# EAGLE library part MSH1602A_SMD_MIRRORED (library Display - LCD MSH1602A)
Name des Bauteiles:Display für DispensiMed3000 Daten:für Info´s bitte an Gz wenden. Artikelnummer: k.A Datenblatt:Gz
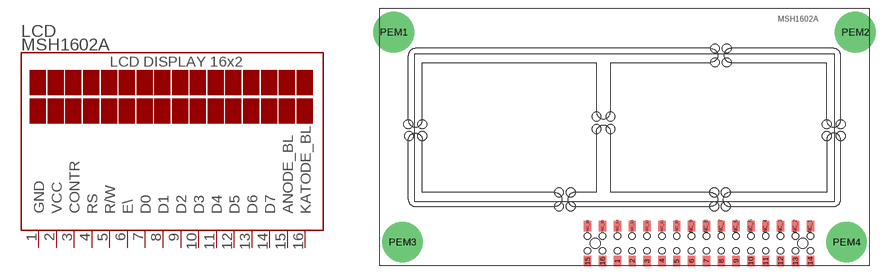
[diagram p0: symbol with the pads of MSH1602A_MIRRORED_SMD_CONTACT; footprint MSH1602A_MIRRORED_SMD_CONTACT]

Designator prefix LCD

## MSH1602A_SMD_MIRROREDTHT  [MSH1602A_MIRRORED_SMD_CONTACT]
1  GND  pwr
2  VCC  pwr
3  CONTR  pwr
4  RS  in
5  R/W  in
6  E\  in
7  D0  in
8  D1  in
9  D2  in
10  D3  in
11  D4  in
12  D5  in
13  D6  in
14  D7  in
15  ANODE_BL  in
16  KATODE_BL  in

## Footprint MSH1602A_MIRRORED_SMD_CONTACT (pad centres in mm)
Display 2x 16 Zeichen "GMS GmbH" MSH1602A Bestückung auf Frontplatten von der Rückseite ( Layout ist dementsprechend gegenüber dem Datenblatt gespiegelt, sodass bei der Montage das Display durch die Fräsung in der Front schaut
smd 1.27 x 1.778: 1 -1.22,-21.254; 2 1.32,-21.254; 3 3.86,-21.254; 4 6.4,-21.254; 5 8.94,-21.254; 6 11.48,-21.254; 7 14.02,-21.254; 8 16.56,-21.254; 9 19.1,-21.254; 10 21.64,-21.254; 11 24.18,-21.254; 12 26.72,-21.254; 13 29.26,-21.254; 14 31.8,-21.254; 15 -6.3,-21.254; 16 -3.76,-21.254; NC_1 31.8,-15.246; NC_2 29.26,-15.246; NC_3 26.72,-15.246; NC_4 24.18,-15.246; NC_5 21.64,-15.246; NC_6 19.1,-15.246; NC_7 16.56,-15.246; NC_8 14.02,-15.246; NC_9 11.48,-15.246; NC_10 8.94,-15.246; NC_11 6.4,-15.246; NC_12 3.86,-15.246; NC_13 1.32,-15.246; NC_14 -1.22,-15.246; NC_15 -3.76,-15.246; NC_16 -6.3,-15.246
drill 4.3 pad 7: PEM1 -39.5,18; PEM2 39.5,18; PEM3 -38,-18; PEM4 38,-18
hole 1.1 at 31.8,-19.5
hole 1.1 at 31.8,-16.96
hole 1.1 at 29.26,-16.96
hole 1.1 at 26.72,-16.96
hole 1.1 at 29.26,-19.5
hole 1.1 at 26.72,-19.5
hole 1.1 at 24.18,-16.96
hole 1.1 at 24.18,-19.5
hole 1.1 at 21.64,-16.96
hole 1.1 at 21.64,-19.5
hole 1.1 at 19.1,-16.96
hole 1.1 at 19.1,-19.5
hole 1.1 at 16.56,-16.96
hole 1.1 at 14.02,-16.96
hole 1.1 at 11.48,-16.96
hole 1.1 at 8.94,-16.96
hole 1.1 at 6.4,-16.96
hole 1.1 at 3.86,-16.96
hole 1.1 at 1.32,-16.96
hole 1.1 at -1.22,-16.96
hole 1.1 at -3.76,-16.96
hole 1.1 at -6.3,-16.96
hole 1.1 at 16.56,-19.5
hole 1.1 at 14.02,-19.5
hole 1.1 at 11.48,-19.5
hole 1.1 at 8.94,-19.5
hole 1.1 at 6.4,-19.5
hole 1.1 at 3.86,-19.5
hole 1.1 at 1.32,-19.5
hole 1.1 at -1.22,-19.5
hole 1.1 at -3.76,-19.5
hole 1.1 at -6.3,-19.5
hole 1.7 at -5.03,-18.23
hole 1.7 at 30.53,-18.23
hole 1.5 at 15.49,15.2
hole 1.5 at 17.49,15.2
hole 1.5 at 15.49,12.8
hole 1.5 at 17.49,12.8
hole 1.5 at -37,2.2
hole 1.5 at -36.9,0.2
hole 1.5 at -34.6,2.2
hole 1.5 at -34.6,0.2
hole 1.5 at 34.6,2.2
hole 1.5 at 37,2.2
hole 1.5 at 37,0.2
hole 1.5 at 34.6,0.2
hole 1.5 at -11.2,-9.5
hole 1.5 at -9.2,-9.5
hole 1.5 at -9.2,-9.5
hole 1.5 at -11.2,-11.9
hole 1.5 at -9.2,-11.9
hole 1.5 at -2.4,3.5
hole 1.5 at -4.8,3.5
hole 1.5 at -4.8,1.4
hole 1.5 at -2.4,1.4
hole 1.5 at 15.342,-9.5
hole 1.5 at 17.342,-9.5
hole 1.5 at 15.342,-11.9
hole 1.5 at 17.342,-11.9